# Altium footprint library PcbLib1.1.PcbLib: 79 footprints (part 3 of 5)
Each footprint in its own frame and in the unit in brackets; x right, y up, seen from the top. Pads: shape width x height; smd on the part's side, far side on the other; paste and mask are expansions set on the pad; w line width, h text height; cw(c..) or ccw(c..) is an arc to the next point about the centre after c.
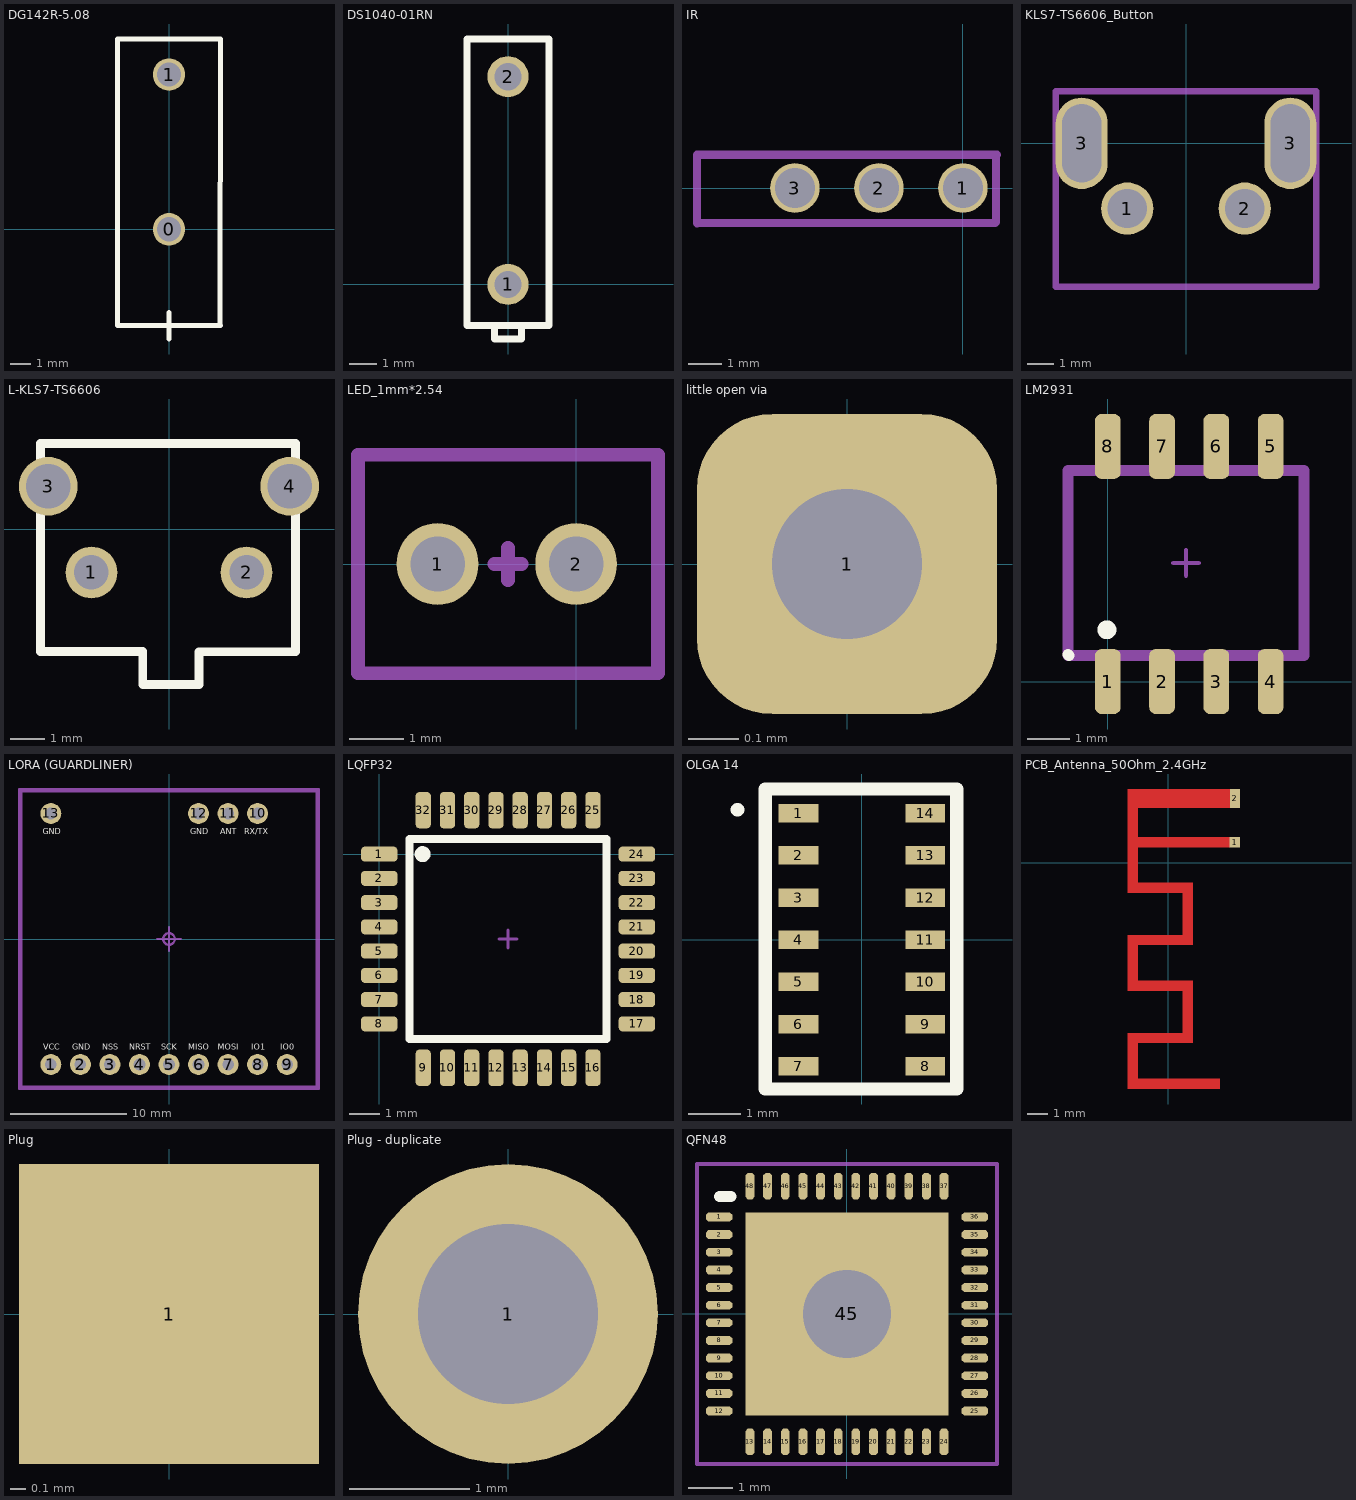
[diagram p2: the footprints below, top view; thin cyan lines are the x and y axes]

## DG142R-5.08 [mm]
height 13.4
pads (2):
  round 1.6 hole 1.2: 0(0,0) 1(0,7.62)
Top Overlay:
  lines w0.25: 0,-5.4 0,-4.1 ; 2.52,-4.73 2.54,9.37 -2.54,9.37 -2.54,-4.73 2.54,-4.73

## DS1040-01RN [mm]
height 6
pads (2):
  round 1.5 hole 1: 1(0,0) 2(0,7.62)
Top Overlay:
  lines w0.254: -0.5,-1.5 -0.5,-2 0.5,-2 0.5,-1.5 ; -1.5,-1.5 1.5,-1.5 1.5,9 -1.5,9 -1.5,-1.5

## IR [mm]
height 5
pads (3):
  round 1.5 hole 1.2: 1(0,0) 2(-2.54,0) 3(-5.08,0)
Mechanical 15:
  lines w0.25: -8.04,-1.06 0.98,-1.06
  lines w0.254: -8.04,-1.06 -8.04,1 1.03,1 ; 1,-1.04 1,1

## KLS7-TS6606_Button [mm]
height 7.1
pads (4):
  round 2 hole 1.5: 1(-2.25,-2.5) 2(2.25,-2.5)
  rrect100% 2x3.5 hole 1.5 slot 3 at 90 deg: 3(-4,0) 3(4,0)
Mechanical 15:
  lines w0.25: -5,-5.5 5,-5.5 5,2 -5,2 -5,-5.5

## L-KLS7-TS6606 [mm]
height 7.1
pads (4):
  round 1.5 hole 1: 1(-2.25,-1.25) 2(2.25,-1.25)
  round 1.7 hole 1.3: 3(-3.5,1.25) 4(3.5,1.25)
Top Overlay:
  lines w0.254: -3.73,-3.54 -0.76,-3.54 -0.76,-4.5 0.87,-4.5 0.87,-3.55 3.67,-3.55 3.67,2.49 -3.73,2.49 -3.73,-3.54

## LED_1mm*2.54 [mm]
height 5
pads (2):
  round 1.5 hole 1: 1(-2.54,0) 2(0,0)
Mechanical 15:
  lines w0.25: -1.5,0 -1,0 ; -1.25,-0.3 -1.25,0.3 ; -4,-2 -4,2 1.5,2 1.5,-2 -4,-2

## little open via [mm]
pads (1):
  rrect50% 0.6x0.6 hole 0.3: 1(0,0)

## LM2931 [mm]
pads (8):
  rrect50% 0.6x1.52 smd: 1(0,0) 2(1.27,0) 3(2.54,0) 4(3.81,0) 5(3.81,5.5) 6(2.54,5.5) 7(1.27,5.5) 8(0,5.5)
Top Overlay:
  circle w0.254: c-0.02,1.21 r0.092
  lines w0.254: -0.93,0.63 -0.91,0.61
Mechanical 15:
  lines w0.1: 1.53,2.775 2.13,2.775 ; 1.83,2.475 1.83,3.075
  lines w0.254: -0.93,0.61 4.59,0.61 4.59,4.94 -0.93,4.94 -0.93,0.63

## LORA (GUARDLINER) [mm]
pads (13):
  round 1.8 hole 1: 1(-10.16,-10.795) 2(-7.62,-10.795) 3(-5.08,-10.795) 4(-2.54,-10.795) 5(0,-10.795) 6(2.54,-10.795) 7(5.08,-10.795) 8(7.62,-10.795) 9(10.16,-10.795) 10(7.62,10.795) 11(5.08,10.795) 12(2.54,10.795) 13(-10.16,10.795)
Top Overlay:
  text "GND" at -10.85,9.025 h0.5
  text "RX/TX" at 6.45,9.025 h0.5
  text "ANT" at 4.425,9.025 h0.5
  text "GND" at 1.825,9.025 h0.5
  text "IO0" at 9.55,-9.525 h0.5
  text "IO1" at 7.075,-9.525 h0.5
  text "MOSI" at 4.2,-9.525 h0.5
  text "MISO" at 1.675,-9.525 h0.5
  text "SCK" at -0.65,-9.525 h0.5
  text "NRST" at -3.425,-9.525 h0.5
  text "NSS" at -5.725,-9.525 h0.5
  text "GND" at -8.3,-9.525 h0.5
  text "VCC" at -10.825,-9.525 h0.5
Mechanical 13:
  lines w0.2: -12.7,-12.7 12.7,-12.7 12.7,12.7 -12.7,12.7 -12.7,-12.7
Mechanical 15:
  circle w0.2: c0,0 r0.5
  lines w0.2: -1,0 1,0 ; 0,-1 0,1 ; -12.9,-12.9 -12.9,12.9 12.9,12.9 12.9,-12.9 -12.9,-12.9 ; -12.8,-12.8 -12.8,12.8 12.8,12.8 12.8,-12.8 -12.8,-12.8

## LQFP32 [mm]
pads (32):
  rrect50% 1.2x0.5 smd: 1(0,0) 2(0,-0.8) 3(0,-1.6) 4(0,-2.4) 5(0,-3.2) 6(0,-4) 7(0,-4.8) 8(0,-5.6) 17(8.5,-5.6) 18(8.5,-4.8) 19(8.5,-4) 20(8.5,-3.2) 21(8.5,-2.4) 22(8.5,-1.6) 23(8.5,-0.8) 24(8.5,0)
  rrect50% 0.5x1.2 smd: 9(1.45,-7.05) 10(2.25,-7.05) 11(3.05,-7.05) 12(3.85,-7.05) 13(4.65,-7.05) 14(5.45,-7.05) 15(6.25,-7.05) 16(7.05,-7.05) 25(7.05,1.45) 26(6.25,1.45) 27(5.45,1.45) 28(4.65,1.45) 29(3.85,1.45) 30(3.05,1.45) 31(2.25,1.45) 32(1.45,1.45)
Top Overlay:
  circle w0.254: c1.43,0 r0.135
  lines w0.254: 1,-6.1 1,0.5 7.5,0.5 7.5,-6.1 1,-6.1
Top Solder:
  rectangle: -0.702,-5.954 0.706,0.347
  rectangle: 1.1,-7.75 7.406,-6.351
  rectangle: 7.8,-5.949 9.197,0.351
  rectangle: 1.1,0.746 7.396,2.149
Mechanical 15:
  lines w0.1: 3.95,-2.8 4.55,-2.8 ; 4.25,-3.1 4.25,-2.5

## OLGA 14 [mm]
height 4
pads (14):
  rect 0.75x0.35 smd: 1(-1.2,2.4) 2(-1.2,1.6) 3(-1.2,0.8) 4(-1.2,0) 5(-1.2,-0.8) 6(-1.2,-1.6) 7(-1.2,-2.4) 8(1.2,-2.4) 9(1.2,-1.6) 10(1.2,-0.8) 11(1.2,0) 12(1.2,0.8) 13(1.2,1.6) 14(1.2,2.4)
Top Overlay:
  lines w0.254: -2.36,2.47 -2.35,2.47 ; -1.83,-2.83 1.8,-2.83 1.8,2.86 -1.83,2.86 -1.83,-2.83

## PCB_Antenna_2.4GHz [mm]

## PCB_Antenna_50Ohm_2.4GHz [mm]
height 1.9
pads (2):
  rect 0.5x0.5 smd: 1(3.198,1)
  rect 0.5x0.9 smd: 2(3.2,3.1)
Top Layer:
  rectangle: -1.581,-6.15 1.188,-5.65
  rectangle: -1.952,2.65 2.957,3.55
  rectangle: -1.652,0.75 2.953,1.25
  rectangle: -1.952,-1.45 1.188,-0.95
  rectangle: -1.557,-3.95 1.188,-3.45
  rectangle: -1.53,-8.65 1.188,-8.15
  rectangle: -1.773,-10.85 2.488,-10.35
  rectangle: -1.952,-1.45 -1.452,3.55
  rectangle: -1.952,-10.85 -1.452,-8.15
  rectangle: -1.952,-6.15 -1.452,-3.45
  rectangle: 0.688,-3.511 1.188,-1.134
  rectangle: 0.688,-8.275 1.188,-6.117

## Plug [mm]
pads (1):
  rect 2x2 smd: 1(0,0)

## Plug - duplicate [mm]
pads (1):
  round 2.5 hole 1.5: 1(0,0)

## QFN48 [mm]
height 2
pads (49):
  oct 0.6x0.2 smd: 1(-2.9,2.2) 2(-2.9,1.8) 3(-2.9,1.4) 4(-2.9,1) 5(-2.9,0.6) 6(-2.9,0.2) 7(-2.9,-0.2) 8(-2.9,-0.6) 9(-2.9,-1) 10(-2.9,-1.4) 11(-2.9,-1.8) 12(-2.9,-2.2) 25(2.9,-2.2) 26(2.9,-1.8) 27(2.9,-1.4) 28(2.9,-1) 29(2.9,-0.6) 30(2.9,-0.2) 31(2.9,0.2) 32(2.9,0.6) 33(2.9,1) 34(2.9,1.4) 35(2.9,1.8) 36(2.9,2.2)
  oct 0.2x0.6 smd: 13(-2.2,-2.9) 14(-1.8,-2.9) 15(-1.4,-2.9) 16(-1,-2.9) 17(-0.6,-2.9) 18(-0.2,-2.9) 19(0.2,-2.9) 20(0.6,-2.9) 21(1,-2.9) 22(1.4,-2.9) 23(1.8,-2.9) 24(2.2,-2.9) 37(2.2,2.9) 38(1.8,2.9) 39(1.4,2.9) 40(1,2.9) 41(0.6,2.9) 42(0.2,2.9) 43(-0.2,2.9) 44(-0.6,2.9) 45(-1,2.9) 46(-1.4,2.9) 47(-1.8,2.9) 48(-2.2,2.9)
  rect 4.6x4.6 hole 2: 45(0,0)
Top Overlay:
  lines w0.25: -2.89,2.66 -2.63,2.66
Top Solder:
  rectangle: -2.6,-2.6 2.6,2.6
Mechanical 15:
  lines w0.1: -3.4,-3.4 3.4,-3.4 3.4,3.4 -3.4,3.4 -3.4,-3.4